# Altium footprint library DPAK.PcbLib: 7 footprints
Each footprint in its own frame and in the unit in brackets; x right, y up, seen from the top. Pads: shape width x height; smd on the part's side, far side on the other; paste and mask are expansions set on the pad; w line width, h text height; cw(c..) or ccw(c..) is an arc to the next point about the centre after c.
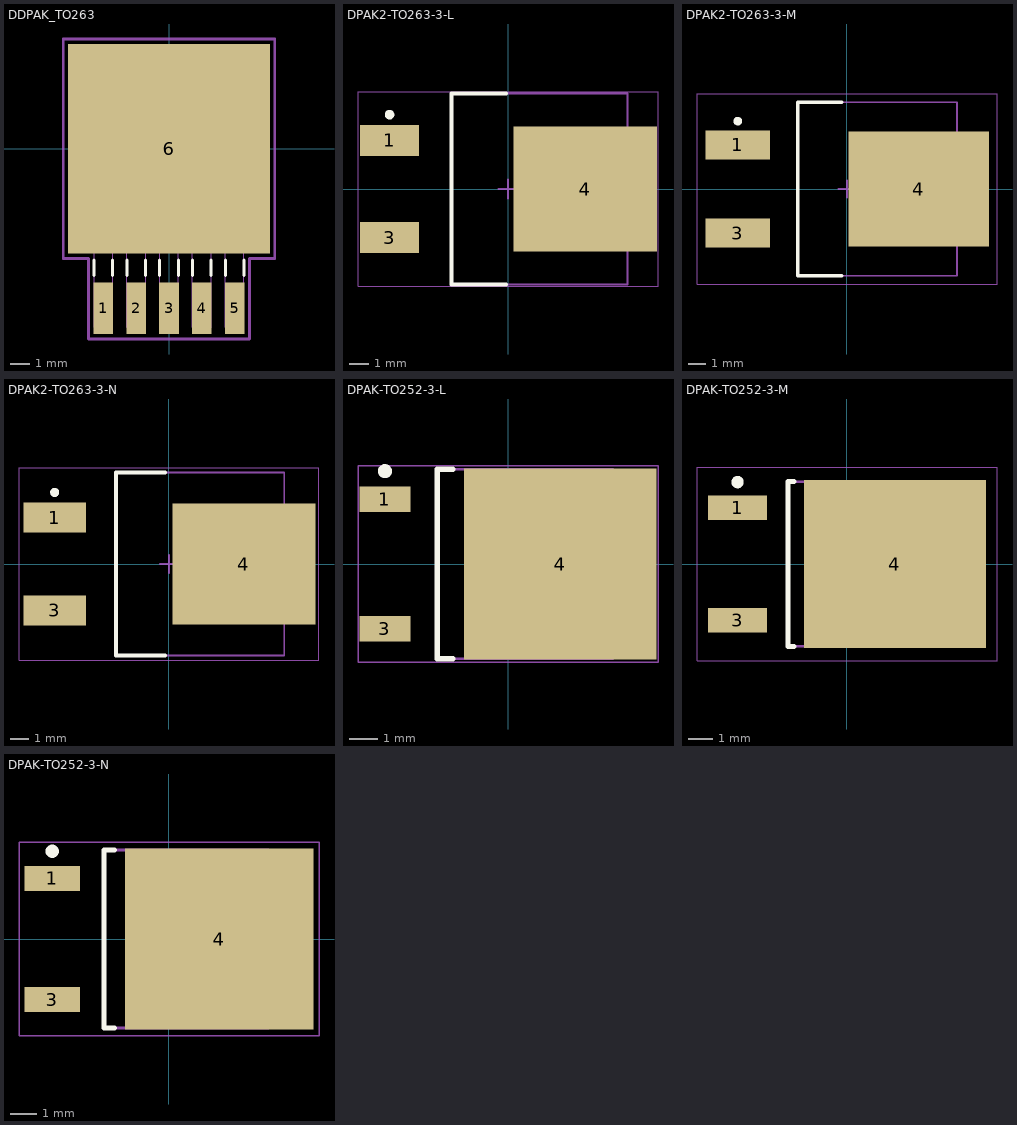
[diagram p0: the footprints below, top view; thin cyan lines are the x and y axes]

## DDPAK_TO263 [mil]
pads (6):
  rect 39.97x105.56 smd paste+0 mask+0: 1(-134,-326) 2(-67,-326) 3(0,-326) 4(67,-326) 5(134,-326)
  rect 412x428 smd paste+0 mask+0: 6(0,0)
Top Overlay:
  lines w6: -153,-259.22 -153,-227.1 ; -115,-259.22 -115,-227.1 ; -86,-259.22 -86,-227.1 ; -48,-259.22 -48,-227.1 ; -19,-259.22 -19,-227.1 ; 19,-259.22 19,-227.1 ; 48,-259.22 48,-227.1 ; 86,-259.22 86,-227.1 ; 115,-259.22 115,-227.1 ; 153,-259.22 153,-227.1
Mechanical 13:
  lines w1: -205,-200 205,-200 205,200 -205,200 -205,-200 ; -153,-365 -153,-200 -115,-200 -115,-365 -153,-365 ; -86,-365 -86,-200 -48,-200 -48,-365 -86,-365 ; -19,-365 -19,-200 19,-200 19,-365 -19,-365 ; 48,-365 48,-200 86,-200 86,-365 48,-365 ; 115,-365 115,-200 153,-200 153,-365 115,-365
  text "*" at -146.5,-215 h50
Mechanical 15:
  lines w6: -216,-224 -216,224 216,224 216,-224 163.98,-224 163.98,-388.78 -163.98,-388.78 -163.98,-224 -216,-224
3D body "LM2576.stp": height 180, standoff -6, extent -199.99,-362.99 200.01,200.01
3D body: height 10, standoff 0, extent 0,0 10,10

## DPAK2-TO263-3-L [mm] "D2-PAK, 3-Pads, Body 7,70x8,36mm (max), IPC High Density"
height 4.5
pads (3):
  rect 3.1x1.6 smd: 1(-6.2,2.54) 3(-6.2,-2.54)
  rect 7.5x6.55 smd: 4(4.05,0)
Top Overlay:
  circle w0.25: c-6.2,3.89 r0.125
  lines w0.2: -0.1,-5 -2.95,-5 -2.95,5 -0.1,5
Mechanical 13:
  lines w0.1: -2.95,-5 6.25,-5 6.25,5 -2.95,5 -2.95,-5
Mechanical 15:
  lines w0.05: -7.85,-5.1 7.85,-5.1 7.85,5.1 -7.85,5.1 -7.85,-5.1
  lines w0.1: -0.5,0 0.5,0 ; 0,-0.5 0,0.5
3D body "DPAK2-TO263-3-L.step": height 4.6, standoff 0, extent -6.55,-5 8.45,5

## DPAK2-TO263-3-M [mm] "D2-PAK, 3-Pads, Body 7,70x8,36mm (max), IPC Low Density"
height 4.5
pads (3):
  rect 3.7x1.65 smd: 1(-6.3,2.54) 3(-6.3,-2.54)
  rect 8.1x6.65 smd: 4(4.15,0)
Top Overlay:
  circle w0.25: c-6.3,3.915 r0.125
  lines w0.2: -0.3,-5 -2.85,-5 -2.85,5 -0.3,5
Mechanical 13:
  lines w0.1: -2.85,-5 6.35,-5 6.35,5 -2.85,5 -2.85,-5
Mechanical 15:
  lines w0.05: -8.65,-5.5 8.65,-5.5 8.65,5.5 -8.65,5.5 -8.65,-5.5
  lines w0.1: -0.5,0 0.5,0 ; 0,-0.5 0,0.5
3D body "DPAK2-TO263-3-M.step": height 4.6, standoff 0, extent -6.4,-5 8.6,5

## DPAK2-TO263-3-N [mm] "D2-PAK, 3-Pads, Body 7,70x8,36mm (max), IPC Medium Density"
height 4.5
pads (3):
  rect 3.4x1.65 smd: 1(-6.25,2.54) 3(-6.25,-2.54)
  rect 7.8x6.6 smd: 4(4.1,0)
Top Overlay:
  circle w0.25: c-6.25,3.915 r0.125
  lines w0.2: -0.2,-5 -2.9,-5 -2.9,5 -0.2,5
Mechanical 13:
  lines w0.1: -2.9,-5 6.3,-5 6.3,5 -2.9,5 -2.9,-5
Mechanical 15:
  lines w0.05: -8.2,-5.25 8.2,-5.25 8.2,5.25 -8.2,5.25 -8.2,-5.25
  lines w0.1: -0.5,0 0.5,0 ; 0,-0.5 0,0.5
3D body "DPAK2-TO263-3-N.step": height 4.6, standoff 0, extent -6.45,-5 8.55,5

## DPAK-TO252-3-L [mm] "D-PAK, 3-Pads, Body 6.20x6.72mm (max), IPC High Density"
height 2.38
pads (3):
  rect 1.8x0.9 smd: 1(-4.35,2.28) 3(-4.35,-2.28)
  rect 6.8x6.75 smd: 4(1.85,0)
Top Overlay:
  circle w0.25: c-4.35,3.28 r0.125
  lines w0.2: -1.95,-3.35 -2.5,-3.35 -2.5,3.35 -1.95,3.35
Mechanical 13:
  lines w0.1: -2.5,-3.35 -2.5,3.35 3.7,3.35 3.7,-3.35 -2.5,-3.35
Mechanical 15:
  lines w0.05: -5.3,-3.475 -5.3,3.475 5.3,3.475 5.3,-3.475 -5.3,-3.475
  lines w0.1: -0.5,0 0.5,0 ; 0,-0.5 0,0.5
3D body "DPAK-TO252-3-L.step": height 2.38, standoff 0, extent -4.54,-3.35 5.185,3.35

## DPAK-TO252-3-M [mm] "D-PAK, 3-Pads, Body 6.20x6.72mm (max), IPC Low Density"
height 2.38
pads (3):
  rect 2.4x1 smd: 1(-4.45,2.28) 3(-4.45,-2.28)
  rect 7.4x6.85 smd: 4(1.95,0)
Top Overlay:
  circle w0.25: c-4.45,3.33 r0.125
  lines w0.2: -2.15,-3.35 -2.4,-3.35 -2.4,3.35 -2.15,3.35
Mechanical 13:
  lines w0.1: -2.4,-3.35 3.8,-3.35 3.8,3.35 -2.4,3.35 -2.4,-3.35
Mechanical 15:
  lines w0.05: -6.1,-3.925 6.1,-3.925 6.1,3.925 -6.1,3.925 -6.1,-3.925
  lines w0.1: -0.5,0 0.5,0 ; 0,-0.5 0,0.5
3D body "DPAK-TO252-3-M.step": height 2.38, standoff 0, extent -4.34,-3.35 5.385,3.35

## DPAK-TO252-3-N [mm] "D-PAK, 3-Pads, Body 6.20x6.72mm (max), IPC Medium Density"
height 2.38
pads (3):
  rect 2.1x0.95 smd: 1(-4.4,2.28) 3(-4.4,-2.28)
  rect 7.1x6.8 smd: 4(1.9,0)
Top Overlay:
  circle w0.25: c-4.4,3.305 r0.125
  lines w0.2: -2.05,-3.35 -2.45,-3.35 -2.45,3.35 -2.05,3.35
Mechanical 13:
  lines w0.1: -2.45,-3.35 -2.45,3.35 3.75,3.35 3.75,-3.35 -2.45,-3.35
Mechanical 15:
  lines w0.05: -5.65,-3.65 -5.65,3.65 5.65,3.65 5.65,-3.65 -5.65,-3.65
  lines w0.1: -0.5,0 0.5,0 ; 0,-0.5 0,0.5
3D body "DPAK-TO252-3-N.step": height 2.38, standoff 0, extent -4.44,-3.35 5.285,3.35